# Altium schematic symbol library Si5351.SchLib: 1 symbol
Pins are listed as number, name and electrical type; pins without a type are passive.

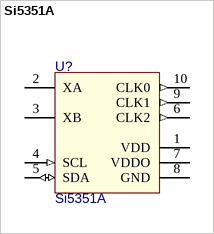
[diagram p0: symbol Si5351A]

## Si5351A
designator U?
I2C-PROGRAMMABLE ANY-FREQUENCY CMOS CLOCK / GENERATOR + VCXO; Value: Si5351A
footprint VSSOP-10 (DGS0010A) (VSSOP, 10-Leads, Body 3.00x3.00mm, Pitch 0.50mm, IPC Medium Density)
pins: 1 VDD (power), 2 XA, 3 XB, 4 SCL (in), 5 SDA (io), 6 CLK2 (out), 7 VDDO (power), 8 GND (power), 9 CLK1 (out), 10 CLK0 (out)